# Altium footprint library Generic PMD.PcbLib: 85 footprints (part 3 of 6)
Each footprint in its own frame and in the unit in brackets; x right, y up, seen from the top. Pads: shape width x height; smd on the part's side, far side on the other; paste and mask are expansions set on the pad; w line width, h text height; cw(c..) or ccw(c..) is an arc to the next point about the centre after c.
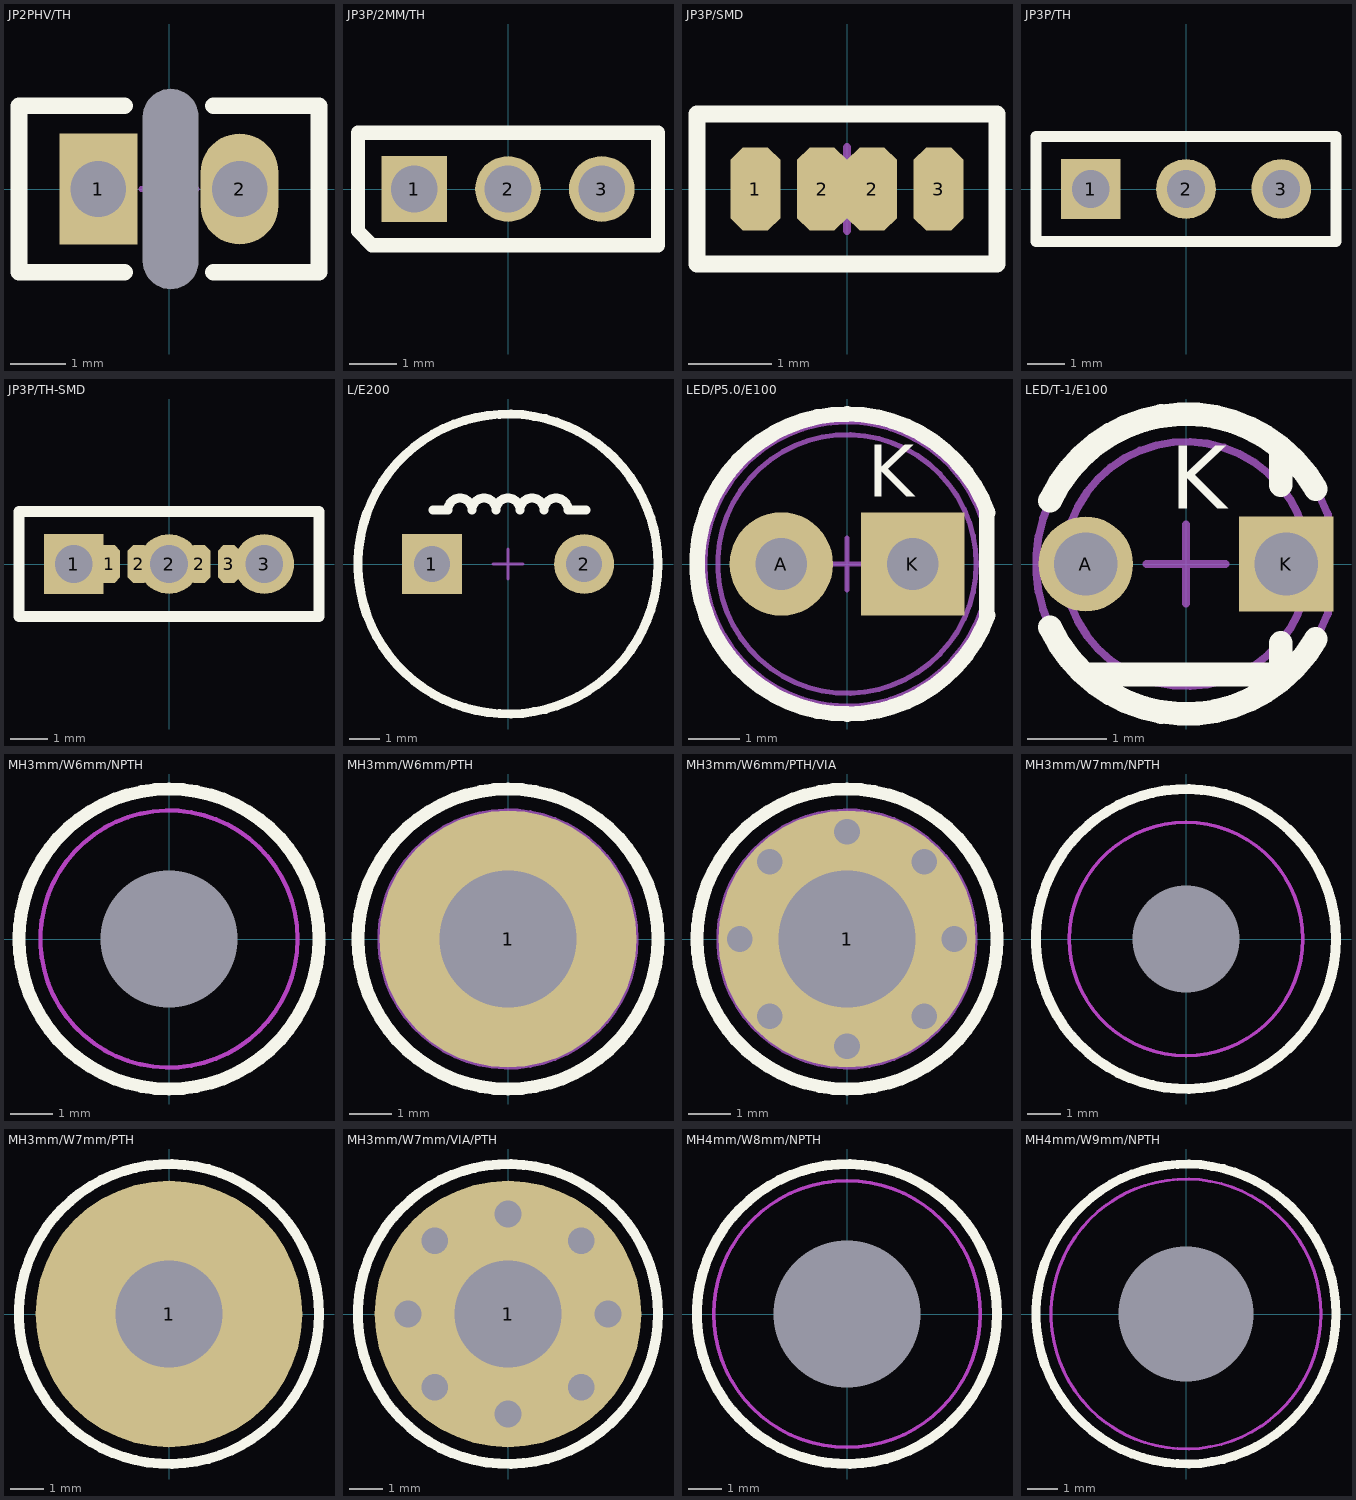
[diagram p2: the footprints below, top view; thin cyan lines are the x and y axes]

## JP2PHV/TH [mm] "2Pin Jumper High Voltage TH"
pads (3):
  rect 1.4x2 hole 1: 1(-1.27,0)
  oval 1.4x2 hole 1: 2(1.27,0)
  round 0 hole 1 slot 3.6 at 90 deg unplated: GAP(0.03,0)
Top Overlay:
  lines w0.3: -0.8,-1.5 -2.7,-1.5 -2.7,1.5 -0.8,1.5 ; 0.8,-1.5 2.7,-1.5 2.7,1.5 0.8,1.5
Courtyard:
  lines w0.1: -0.5,0 0.5,0 ; 0,-0.5 0,0.5

## JP3P/2MM/TH [mm] "3Pin Jumper 2mm TH"
pads (3):
  rect 1.4x1.4 hole 1 mask+0.1: 1(-2,0)
  round 1.4 hole 1 mask+0.1: 2(0,0) 3(2,0)
Top Overlay:
  lines w0.3: -3.2,-0.9 -3.2,1.2 3.2,1.2 3.2,-1.2 -2.9,-1.2 -3.2,-0.9
Courtyard:
  lines w0.1: -0.5,0 0.5,0 ; 0,-0.5 0,0.5

## JP3P/SMD [mm] "3Pin Jumper SMD Pad"
pads (4):
  oct 0.6x1 smd mask+0: 1(-1.1,0) 2(-0.3,0) 2(0.3,0) 3(1.1,0)
Top Overlay:
  lines w0.2: -1.8,-0.9 -1.8,0.9 1.8,0.9 1.8,-0.9 -1.8,-0.9
Top Solder:
  rectangle: -1.5,-0.6 1.5,0.6
Courtyard:
  lines w0.1: -0.5,0 0.5,0 ; 0,-0.5 0,0.5

## JP3P/TH [mm] "3Pin Jumper TH"
pads (3):
  rect 1.6x1.6 hole 1: 1(-2.54,0)
  round 1.6 hole 1: 2(0,0) 3(2.54,0)
Top Overlay:
  lines w0.3: -4,-1.4 4,-1.4 4,1.4 -4,1.4 -4,-1.4
Courtyard:
  lines w0.1: -0.5,0 0.5,0 ; 0,-0.5 0,0.5

## JP3P/TH-SMD [mm] "3Pin Jumper TH with SMD Pad"
pads (7):
  rect 1.6x1.6 hole 1: 1(-2.54,0)
  oct 0.6x1 smd mask+0: 1(-1.6,0) 2(-0.8,0) 2(0.8,0) 3(1.6,0)
  round 1.6 hole 1: 2(0,0) 3(2.54,0)
Top Overlay:
  lines w0.3: -4,-1.4 4,-1.4 4,1.4 -4,1.4 -4,-1.4
Top Solder:
  rectangle: -2,-0.6 -0.6,0.6
  rectangle: 0.6,-0.6 2,0.6
Courtyard:
  lines w0.1: -0.5,0 0.5,0 ; 0,-0.5 0,0.5

## L/E200 [mm] "Coil; Body 10x13mm; Pitch 200mil/5mm"
height 11
pads (2):
  rect 2x2 hole 1.2 paste+0: 1(-2.54,0)
  round 2 hole 1.2 paste+0: 2(2.54,0)
Top Overlay:
  circle w0.3: c0,0 r5
  lines w0.3: -2.5,1.8 -2,1.8 cw(c-1.6,1.8) -1.2,1.8 cw(c-0.8,1.8) -0.4,1.8 cw(c0,1.8) 0.4,1.8 cw(c0.8,1.8) 1.2,1.8 cw(c1.6,1.8) 2,1.8 2.6,1.8
Courtyard:
  lines w0.1: -0.5,0 0.5,0 ; 0,-0.5 0,0.5

## LED/P5.0/E100 [mm] "LED; Radial; Diameter T-1 3/4(5mm); Body 5.5x5.0x9.7mm; Pitch 2.5mm/100mil;"
height 9.7
pads (2):
  round 2 hole 1: A(-1.27,0)
  rect 2x2 hole 1: K(1.27,0)
Top Overlay:
  lines w0.3: 2.7,-1 2.7,1 ; 2.725,-0.992 cw(c0,0) 2.725,0.992
  text "K" at 0.4,1.3 h1
Dimension:
  circle w0.1: c0,0 r2.75
Package:
  circle w0.1: c0,0 r2.5
  lines w0.1: 2.6,-0.9 2.6,0.9 ; 2.6,-0.895 cw(c0,0) 2.6,0.895
Courtyard:
  lines w0.1: -0.5,0 0.5,0 ; 0,-0.5 0,0.5
3D body: height 10.7, standoff 1, extent -2.48,-2.495 2.5,2.495
3D body: height 2, standoff 1, extent -2.75,-2.75 2.6,2.75

## LED/T-1/E100 [mm] "LED; Radial; Diameter T-1 (3mm); Body 3.8x3.8x6.2mm; Pitch 2.5mm/100mil;"
height 6.2
pads (2):
  round 1.2 hole 0.8: A(-1.27,0)
  rect 1.2x1.2 hole 0.8: K(1.27,0)
Top Overlay:
  lines w0.3: -1.722,-0.803 ccw(c0,0) 1.645,-0.95 ; -1.722,0.803 cw(c0,0) 1.645,0.95 ; -1.2,-1.4 1.2,-1.4 1.2,-1 ; 1.2,1 1.2,1.4
  text "K" at -0.2,0.7 h0.8
Package:
  circle w0.1: c0,0 r1.55
  lines w0.1: 1.785,-0.65 cw(c0,0) 1.785,0.65 ; 1.8,-0.625 1.8,0.625
Courtyard:
  lines w0.1: -0.5,0 0.5,0 ; 0,-0.5 0,0.5
3D body: height 6.2, standoff 1, extent -1.55,-1.55 1.55,1.55
3D body: height 2.1, standoff 1, extent -1.9,-1.9 1.8,1.9

## MH3mm/W6mm/NPTH [mm] "3mm Through Hole; Washer 6mm; Non-Plated;"
pads (1):
  round 0 hole 3.2 unplated: 1(0,0)
Top Overlay:
  circle w0.3: c0,0 r3.5
Bottom Overlay:
  circle w0.3: c0,0 r3.5
Keep-Out Layer:
  circle w0.1: c0,0 r3
Package:
  circle w0.1: c0,0 r3
Courtyard:
  lines w0.1: -0.5,0 0.5,0 ; 0,-0.5 0,0.5
3D body: height 4, standoff 0, extent -2.976,-2.994 3,2.994

## MH3mm/W6mm/PTH [mm] "3mm Through Hole; Washer 6mm; Plated;"
pads (1):
  round 6 hole 3.2: 1(0,0)
Top Overlay:
  circle w0.3: c0,0 r3.5
Bottom Overlay:
  circle w0.3: c0,0 r3.5
Package:
  circle w0.1: c0,0 r3
Courtyard:
  lines w0.1: -0.5,0 0.5,0 ; 0,-0.5 0,0.5
3D body: height 4, standoff 0, extent -2.976,-2.994 3,2.994

## MH3mm/W6mm/PTH/VIA [mm] "3mm Through Hole; Washer 6mm; Plated; with VIA;"
pads (1):
  round 6 hole 3.2: 1(0,0)
via -2.5,0 diameter 0.8 hole 0.6
via 2.5,0 diameter 0.8 hole 0.6
via 0,2.5 diameter 0.8 hole 0.6
via 0,-2.5 diameter 0.8 hole 0.6
via -1.8,-1.8 diameter 0.8 hole 0.6
via 1.8,-1.8 diameter 0.8 hole 0.6
via 1.8,1.8 diameter 0.8 hole 0.6
via -1.8,1.8 diameter 0.8 hole 0.6
Top Overlay:
  circle w0.3: c0,0 r3.5
Bottom Overlay:
  circle w0.3: c0,0 r3.5
Package:
  circle w0.1: c0,0 r3
Courtyard:
  lines w0.1: -0.5,0 0.5,0 ; 0,-0.5 0,0.5
3D body: height 4, standoff 0, extent -2.976,-2.994 3,2.994

## MH3mm/W7mm/NPTH [mm] "3mm Through Hole; Washer 7mm; Non-Plated;"
pads (1):
  round 0 hole 3.2 unplated: 1(0,0)
Top Overlay:
  circle w0.3: c0,0 r4.5
Bottom Overlay:
  circle w0.3: c0,0 r4.5
Keep-Out Layer:
  circle w0.1: c0,0 r3.5
Package:
  circle w0.1: c0,0 r3.5
Courtyard:
  lines w0.1: -0.5,0 0.5,0 ; 0,-0.5 0,0.5
3D body: height 4, standoff 0, extent -3.472,-3.493 3.5,3.493

## MH3mm/W7mm/PTH [mm] "3mm Through Hole; Washer 7mm; Plated;"
pads (1):
  round 8 hole 3.2: 1(0,0)
Top Overlay:
  circle w0.3: c0,0 r4.5
Bottom Overlay:
  circle w0.3: c0,0 r4.5
Package:
  circle w0.1: c0,0 r3.5
Courtyard:
  lines w0.1: -0.5,0 0.5,0 ; 0,-0.5 0,0.5
3D body: height 4, standoff 0, extent -3.472,-3.493 3.5,3.493

## MH3mm/W7mm/VIA/PTH [mm] "3mm Through Hole; Washer 7mm; Plated; with VIA;"
pads (1):
  round 8 hole 3.2: 1(0,0)
via -2.2,-2.2 diameter 1 hole 0.8
via 2.2,-2.2 diameter 1 hole 0.8
via 2.2,2.2 diameter 1 hole 0.8
via -2.2,2.2 diameter 1 hole 0.8
via 0,3 diameter 1 hole 0.8
via 3,0 diameter 1 hole 0.8
via 0,-3 diameter 1 hole 0.8
via -3,0 diameter 1 hole 0.8
Top Overlay:
  circle w0.3: c0,0 r4.5
Bottom Overlay:
  circle w0.3: c0,0 r4.5
Package:
  circle w0.1: c0,0 r3.5
Courtyard:
  lines w0.1: -0.5,0 0.5,0 ; 0,-0.5 0,0.5
3D body: height 4, standoff 0, extent -3.472,-3.493 3.5,3.493

## MH4mm/W8mm/NPTH [mm] "4mm Through Hole; Washer 8mm; Non-Plated;"
pads (1):
  round 0 hole 4.4 unplated: 1(0,0)
Top Overlay:
  circle w0.3: c0,0 r4.5
Bottom Overlay:
  circle w0.3: c0,0 r4.5
Keep-Out Layer:
  circle w0.1: c0,0 r4
Package:
  circle w0.1: c0,0 r4
Courtyard:
  lines w0.1: -0.5,0 0.5,0 ; 0,-0.5 0,0.5
3D body: height 4, standoff 0, extent -3.968,-3.992 4,3.992

## MH4mm/W9mm/NPTH [mm] "4mm Through Hole; Washer 9mm; Non-Plated;"
pads (1):
  round 0 hole 4.5 unplated: 1(0,0)
Top Overlay:
  circle w0.3: c0,0 r5
Bottom Overlay:
  circle w0.3: c0,0 r5
Keep-Out Layer:
  circle w0.1: c0,0 r4.5
Package:
  circle w0.1: c0,0 r4.5
Courtyard:
  lines w0.1: -0.5,0 0.5,0 ; 0,-0.5 0,0.5
3D body: height 4, standoff 0, extent -4.464,-4.491 4.5,4.491